# EAGLE library part SAMACSYS_PARTS_TPS3850G33DRCT (library Local Compute Module)
Precision window supervisor for OV & UV monitoring with window watchdog timer & programmable delay Source: Datasheet <http://www.ti.com/general/docs/suppproductinfo.tsp?distId=10&gotoUrl=http://www.ti.com/lit/gpn/tps3850>
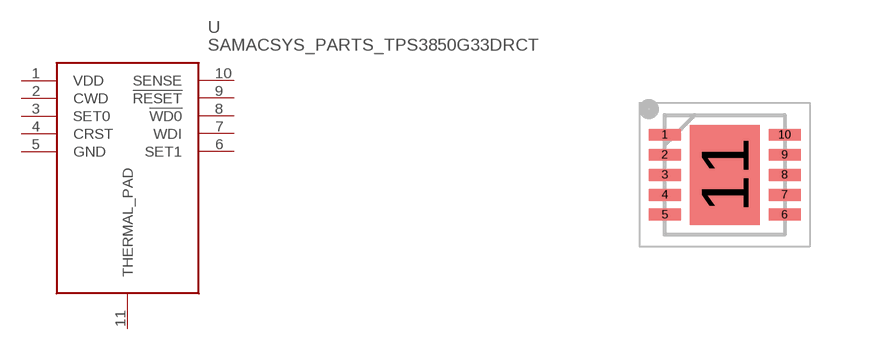
[diagram p20: symbol with the pads of SAMACSYS_PARTS_SON50P300X300X100-11N; footprint SAMACSYS_PARTS_SON50P300X300X100-11N]

Designator prefix U

## SAMACSYS_PARTS_TPS3850G33DRCT (DIGIKEY: 2156-TPS3850G33DRCR-ND; MANUFACTURE: Texas Instruments; MPN: TPS3850G33DRCT)  [SAMACSYS_PARTS_SON50P300X300X100-11N]
1  VDD
2  CWD
3  SET0
4  CRST
5  GND
6  SET1
7  WDI
8  !WD0
9  !RESET
10  SENSE
11  THERMAL_PAD

## Footprint SAMACSYS_PARTS_SON50P300X300X100-11N (pad centres in mm)
DRC0010J
smd 0.8 x 0.3: 1 -1.5,1; 2 -1.5,0.5; 3 -1.5,0; 4 -1.5,-0.5; 5 -1.5,-1; 6 1.5,-1; 7 1.5,-0.5; 8 1.5,0; 9 1.5,0.5; 10 1.5,1
smd 1.75 x 2.5: 11 0,0